# Altium schematic symbol library 74HC32D,653.SchLib: 1 symbol
Pins are listed as number, name and electrical type; pins without a type are passive.

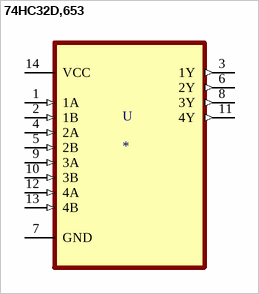
[diagram p0: symbol 74HC32D,653]

## 74HC32D,653
designator U
OR Gate IC 4 Channel 14-SO; MP: 74HC32D,653; MF: Nexperia USA; Price: None; SnapEDA_Link: https://www.snapeda.com/parts/74HC32D,653/Nexperia%20USA%20Inc./view-part/33189/?ref=snap; Package: SOIC-14 NXP Semiconductors; DigiKey-Purchase-URL: https://snapeda.com/shop?store=DigiKey&id=33189; Value: *; Mouser-Purchase-URL: https://snapeda.com/shop?store=Mouser&id=33189; Availability: Good
pins: 1 1A (in), 2 1B (in), 3 1Y (out), 4 2A (in), 5 2B (in), 6 2Y (out), 7 GND, 8 3Y (out), 9 3A (in), 10 3B (in), 11 4Y (out), 12 4A (in), 13 4B (in), 14 VCC (power)